# Altium schematic symbol library SN74LV1T34.Schlib: 1 symbol
Pins are listed as number, name and electrical type; pins without a type are passive.

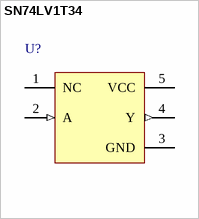
[diagram p0: symbol SN74LV1T34]

## SN74LV1T34
designator U?
Single Power Supply BUFFER Logic Level Shifter (no enable) 5-SC70 -40 to 125
pins: 1 NC, 2 A (in), 3 GND (power), 4 Y (out), 5 VCC (power)